# EAGLE library part ADM3053 (library counter)
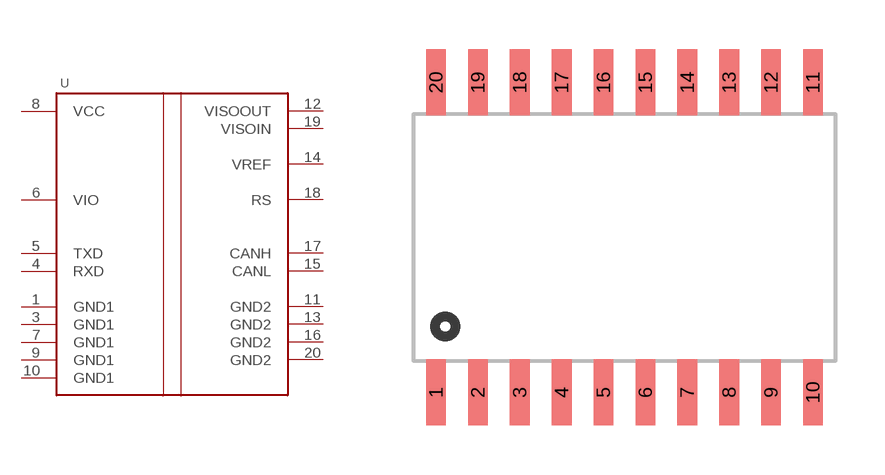
[diagram p3: symbol with the pads of SOIC-20; footprint SOIC-20]

Designator prefix -

## ADM3053  [SOIC-20]
1  GND1
3  GND1
4  RXD
5  TXD
6  VIO
7  GND1
8  VCC
9  GND1
10  GND1
11  GND2
12  VISOOUT
13  GND2
14  VREF
15  CANL
16  GND2
17  CANH
18  RS
19  VISOIN
20  GND2

## Footprint SOIC-20 (pad centres in mm)
smd 0.6 x 2: 1 0,-4.7; 2 1.27,-4.7; 3 2.54,-4.7; 4 3.81,-4.7; 5 5.08,-4.7; 6 6.35,-4.7; 7 7.62,-4.7; 8 8.89,-4.7; 9 10.16,-4.7; 10 11.43,-4.7; 11 11.43,4.7; 12 10.16,4.7; 13 8.89,4.7; 14 7.62,4.7; 15 6.35,4.7; 16 5.08,4.7; 17 3.81,4.7; 18 2.54,4.7; 19 1.27,4.7; 20 0,4.7